# Altium schematic symbol library PER561-P115-N0015.SchLib: 1 symbol
Pins are listed as number, name and electrical type; pins without a type are passive.

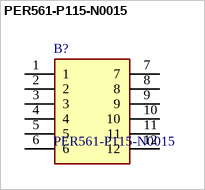
[diagram p0: symbol PER561-P115-N0015]

## PER561-P115-N0015
designator B?
56 mm Low Profile Incremental Ring Encoder; Manufacturer_Name: Bourns; Geometry.Height: 10.95mm; Manufacturer_Part_Number: PER561-P115-N0015; Mouser Part Number: 652-PER561P115N0015; Mouser Price/Stock: https://www.mouser.co.uk/ProductDetail/Bourns/PER561-P115-N0015?qs=IS%252B4QmGtzzrAUR9c1BGEfg%3D%3D; Arrow Part Number: PER561-P115-N0015; Arrow Price/Stock: https://www.arrow.com/en/products/per561-p115-n0015/bourns?region=nac; Datasheet Link: https://www.bourns.com/engineering/PER56/PER56.stp
footprint PER561P115N0015
pins: 1, 2, 3, 4, 5, 6, 7, 8, 9, 10, 11, 12